# EAGLE library part CD74HC154M96 (library FSAE Electric)
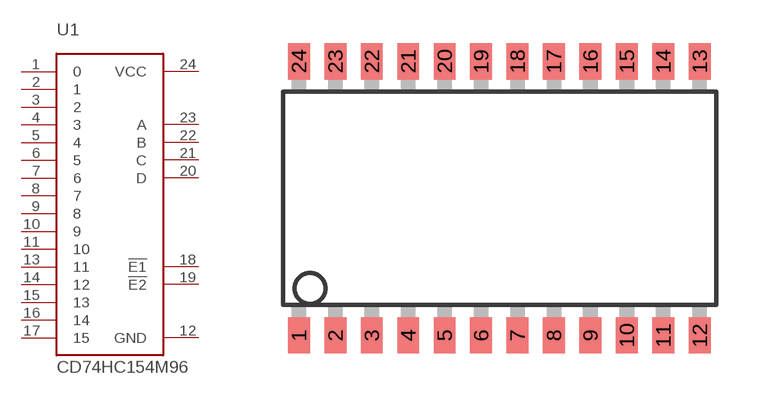
[diagram p102: symbol with the pads of SO-24; footprint SO-24]

Designator prefix U1

## CD74HC154M96  [SO-24]
1  0
2  1
3  2
4  3
5  4
6  5
7  6
8  7
9  8
10  9
11  10
12  GND
13  11
14  12
15  13
16  14
17  15
18  !E1
19  !E2
20  D
21  C
22  B
23  A
24  VCC

## Footprint SO-24 (pad centres in mm)
smd 0.762 x 1.27: 1 -8.89,-4.78; 2 -7.62,-4.78; 3 -6.35,-4.78; 4 -5.08,-4.78; 5 -3.81,-4.78; 6 -2.54,-4.78; 7 -1.27,-4.78; 8 0,-4.78; 9 1.27,-4.78; 10 2.54,-4.78; 11 3.81,-4.78; 12 5.08,-4.78; 13 5.08,4.78; 14 3.81,4.78; 15 2.54,4.78; 16 1.27,4.78; 17 0,4.78; 18 -1.27,4.78; 19 -2.54,4.78; 20 -3.81,4.78; 21 -5.08,4.78; 22 -6.35,4.78; 23 -7.62,4.78; 24 -8.89,4.78